# Altium schematic symbol library Connector.SchLib: 10 symbols
Pins are listed as number, name and electrical type; pins without a type are passive.

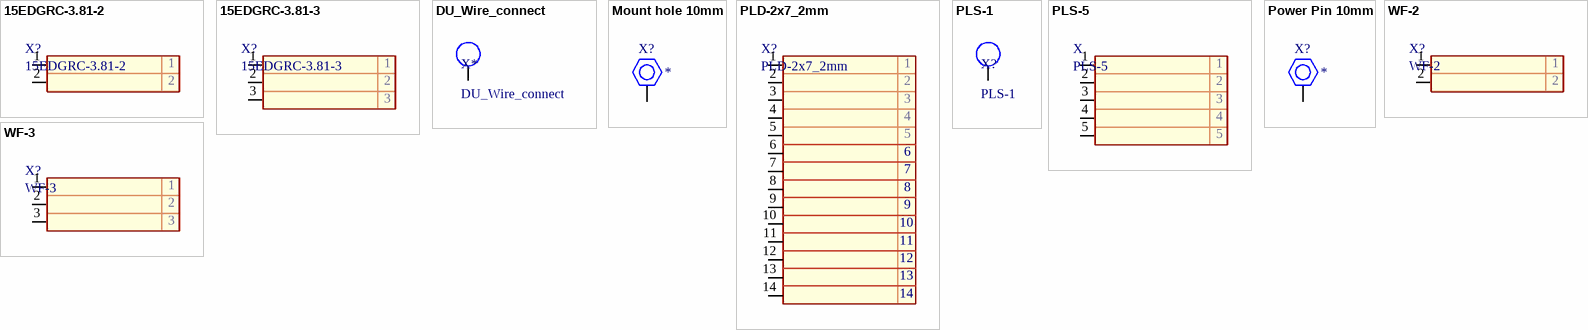
[diagram p0: symbols 15EDGRC-3.81-2 to WF-3]

## 15EDGRC-3.81-2
designator X?
footprint 15EDGRC-3.81-2
pins: 1, 2

## 15EDGRC-3.81-3
designator X?
footprint 15EDGRC-3.81-3
pins: 1, 2, 3

## DU_Wire_connect
designator X*
footprint DU_Wire_connect
pins: 1

## Mount hole 10mm
designator X?
footprint SqPwrPad10_3 (Square Power Pad, 10mm, hole 3mm)
pins: 1

## PLD-2x7_2mm
designator X?
2mm
footprint PLD-2x7_2mm
pins: 1, 2, 3, 4, 5, 6, 7, 8, 9, 10, 11, 12, 13, 14

## PLS-1
designator X?
footprint PLS-1
pins: 1

## PLS-5
designator X
footprint PLS-5
pins: 1, 2, 3, 4, 5

## Power Pin 10mm
designator X?
footprint SqPwrPad10_5 (Square Power Pad, 10mm, hole 5mm)
pins: 1

## WF-2
designator X?
footprint WF-2
pins: 1, 2

## WF-3
designator X?
footprint WF-3
pins: 1, 2, 3